# EAGLE library part XC3S100ECP132 (library xilinx_spartan3_virtex4_and_5)
Xilinx FPGA
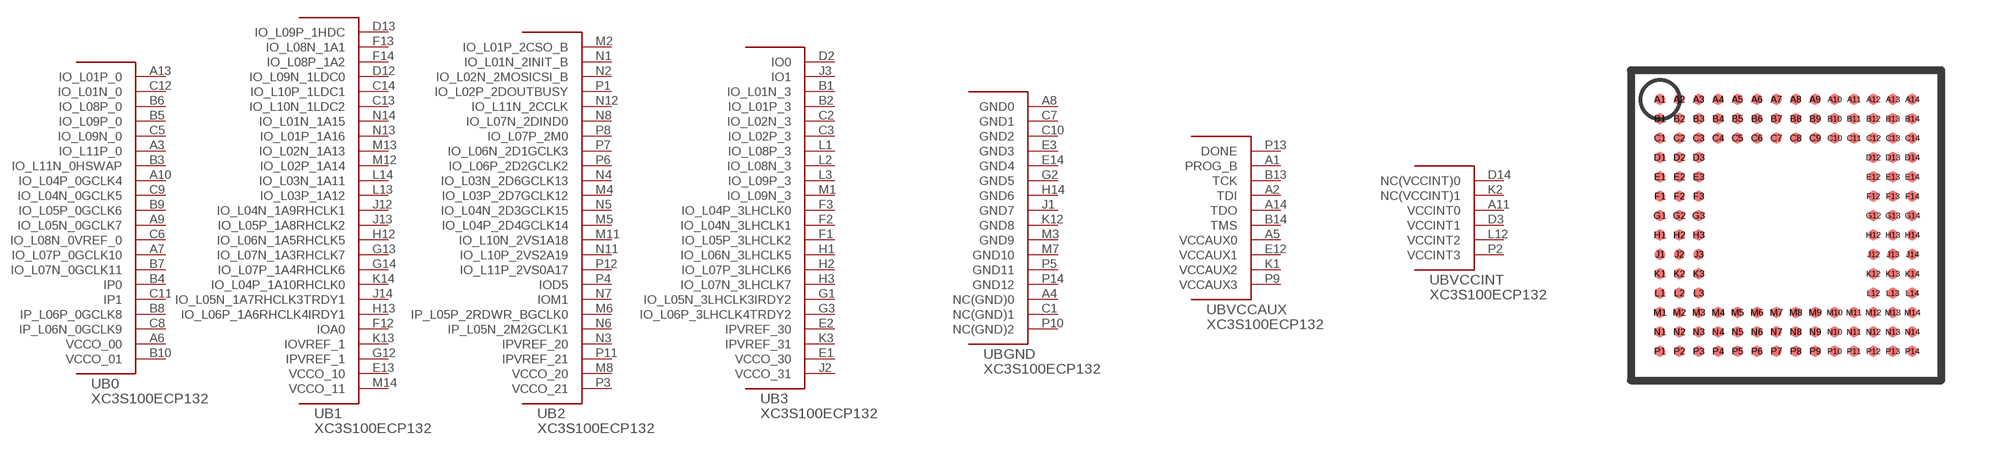
[diagram p45: symbol with the pads of CP132; footprint CP132]

Designator prefix U; gates B0=XC3S100ECP132_0 B1=XC3S100ECP132_1 B2=XC3S100ECP132_2 B3=XC3S100ECP132_3 BGND=XC3S100ECP132_GND BVCCAUX=XC3S100ECP132_VCCAUX BVCCINT=XC3S100ECP132_VCCINT

## XC3S100ECP132  [CP132]
A1  BVCCAUX:PROG_B
A2  BVCCAUX:TDI
A3  B0:IO_L11P_0
A4  BGND:NC(GND)0
A5  BVCCAUX:VCCAUX0  pas
A6  B0:VCCO_00  pas
A7  B0:IO_L07P_0GCLK10
A8  BGND:GND0  pas
A9  B0:IO_L05N_0GCLK7
A10  B0:IO_L04P_0GCLK4
A11  BVCCINT:VCCINT0  pas
A13  B0:IO_L01P_0
A14  BVCCAUX:TDO
B1  B3:IO_L01N_3
B2  B3:IO_L01P_3
B3  B0:IO_L11N_0HSWAP
B4  B0:IP0
B5  B0:IO_L09P_0
B6  B0:IO_L08P_0
B7  B0:IO_L07N_0GCLK11
B8  B0:IP_L06P_0GCLK8
B9  B0:IO_L05P_0GCLK6
B10  B0:VCCO_01  pas
B13  BVCCAUX:TCK
B14  BVCCAUX:TMS
C1  BGND:NC(GND)1
C2  B3:IO_L02N_3
C3  B3:IO_L02P_3
C5  B0:IO_L09N_0
C6  B0:IO_L08N_0VREF_0
C7  BGND:GND1  pas
C8  B0:IP_L06N_0GCLK9
C9  B0:IO_L04N_0GCLK5
C10  BGND:GND2  pas
C11  B0:IP1
C12  B0:IO_L01N_0
C13  B1:IO_L10N_1LDC2
C14  B1:IO_L10P_1LDC1
D2  B3:IO0
D3  BVCCINT:VCCINT1  pas
D12  B1:IO_L09N_1LDC0
D13  B1:IO_L09P_1HDC
D14  BVCCINT:NC(VCCINT)0
E1  B3:VCCO_30  pas
E2  B3:IPVREF_30
E3  BGND:GND3  pas
E12  BVCCAUX:VCCAUX1  pas
E13  B1:VCCO_10  pas
E14  BGND:GND4  pas
F1  B3:IO_L05P_3LHCLK2
F2  B3:IO_L04N_3LHCLK1
F3  B3:IO_L04P_3LHCLK0
F12  B1:IOA0
F13  B1:IO_L08N_1A1
F14  B1:IO_L08P_1A2
G1  B3:IO_L05N_3LHCLK3IRDY2
G2  BGND:GND5  pas
G3  B3:IO_L06P_3LHCLK4TRDY2
G12  B1:IPVREF_1
G13  B1:IO_L07N_1A3RHCLK7
G14  B1:IO_L07P_1A4RHCLK6
H1  B3:IO_L06N_3LHCLK5
H2  B3:IO_L07P_3LHCLK6
H3  B3:IO_L07N_3LHCLK7
H12  B1:IO_L06N_1A5RHCLK5
H13  B1:IO_L06P_1A6RHCLK4IRDY1
H14  BGND:GND6  pas
J1  BGND:GND7  pas
J2  B3:VCCO_31  pas
J3  B3:IO1
J12  B1:IO_L04N_1A9RHCLK1
J13  B1:IO_L05P_1A8RHCLK2
J14  B1:IO_L05N_1A7RHCLK3TRDY1
K1  BVCCAUX:VCCAUX2  pas
K2  BVCCINT:NC(VCCINT)1
K3  B3:IPVREF_31
K12  BGND:GND8  pas
K13  B1:IOVREF_1
K14  B1:IO_L04P_1A10RHCLK0
L1  B3:IO_L08P_3
L2  B3:IO_L08N_3
L3  B3:IO_L09P_3
L12  BVCCINT:VCCINT2  pas
L13  B1:IO_L03P_1A12
L14  B1:IO_L03N_1A11
M1  B3:IO_L09N_3
M2  B2:IO_L01P_2CSO_B
M3  BGND:GND9  pas
M4  B2:IO_L03P_2D7GCLK12
M5  B2:IO_L04P_2D4GCLK14
M6  B2:IP_L05P_2RDWR_BGCLK0
M7  BGND:GND10  pas
M8  B2:VCCO_20  pas
M11  B2:IO_L10N_2VS1A18
M12  B1:IO_L02P_1A14
M13  B1:IO_L02N_1A13
M14  B1:VCCO_11  pas
N1  B2:IO_L01N_2INIT_B
N2  B2:IO_L02N_2MOSICSI_B
N3  B2:IPVREF_20
N4  B2:IO_L03N_2D6GCLK13
N5  B2:IO_L04N_2D3GCLK15
N6  B2:IP_L05N_2M2GCLK1
N7  B2:IOM1
N8  B2:IO_L07N_2DIND0
N11  B2:IO_L10P_2VS2A19
N12  B2:IO_L11N_2CCLK
N13  B1:IO_L01P_1A16
N14  B1:IO_L01N_1A15
P1  B2:IO_L02P_2DOUTBUSY
P2  BVCCINT:VCCINT3  pas
P3  B2:VCCO_21  pas
P4  B2:IOD5
P5  BGND:GND11  pas
P6  B2:IO_L06P_2D2GCLK2
P7  B2:IO_L06N_2D1GCLK3
P8  B2:IO_L07P_2M0
P9  BVCCAUX:VCCAUX3  pas
P10  BGND:NC(GND)2
P11  B2:IPVREF_21
P12  B2:IO_L11P_2VS0A17
P13  BVCCAUX:DONE
P14  BGND:GND12  pas

## Footprint CP132 (pad centres in mm)
smd 0.27 x 0.27: A1 -3.25,3.25; A2 -2.75,3.25; A3 -2.25,3.25; A4 -1.75,3.25; A5 -1.25,3.25; A6 -0.75,3.25; A7 -0.25,3.25; A8 0.25,3.25; A9 0.75,3.25; A10 1.25,3.25; A11 1.75,3.25; A12 2.25,3.25; A13 2.75,3.25; A14 3.25,3.25; B1 -3.25,2.75; B2 -2.75,2.75; B3 -2.25,2.75; B4 -1.75,2.75; B5 -1.25,2.75; B6 -0.75,2.75; B7 -0.25,2.75; B8 0.25,2.75; B9 0.75,2.75; B10 1.25,2.75; B11 1.75,2.75; B12 2.25,2.75; B13 2.75,2.75; B14 3.25,2.75; C1 -3.25,2.25; C2 -2.75,2.25; C3 -2.25,2.25; C4 -1.75,2.25; C5 -1.25,2.25; C6 -0.75,2.25; C7 -0.25,2.25; C8 0.25,2.25; C9 0.75,2.25; C10 1.25,2.25; C11 1.75,2.25; C12 2.25,2.25; C13 2.75,2.25; C14 3.25,2.25; D1 -3.25,1.75; D2 -2.75,1.75; D3 -2.25,1.75; D12 2.25,1.75; D13 2.75,1.75; D14 3.25,1.75; E1 -3.25,1.25; E2 -2.75,1.25; E3 -2.25,1.25; E12 2.25,1.25; E13 2.75,1.25; E14 3.25,1.25; F1 -3.25,0.75; F2 -2.75,0.75; F3 -2.25,0.75; F12 2.25,0.75; F13 2.75,0.75; F14 3.25,0.75; G1 -3.25,0.25; G2 -2.75,0.25; G3 -2.25,0.25; G12 2.25,0.25; G13 2.75,0.25; G14 3.25,0.25; H1 -3.25,-0.25; H2 -2.75,-0.25; H3 -2.25,-0.25; H12 2.25,-0.25; H13 2.75,-0.25; H14 3.25,-0.25; J1 -3.25,-0.75; J2 -2.75,-0.75; J3 -2.25,-0.75; J12 2.25,-0.75; J13 2.75,-0.75; J14 3.25,-0.75; K1 -3.25,-1.25; K2 -2.75,-1.25; K3 -2.25,-1.25; K12 2.25,-1.25; K13 2.75,-1.25; K14 3.25,-1.25; L1 -3.25,-1.75; L2 -2.75,-1.75; L3 -2.25,-1.75; L12 2.25,-1.75; L13 2.75,-1.75; L14 3.25,-1.75; M1 -3.25,-2.25; M2 -2.75,-2.25; M3 -2.25,-2.25; M4 -1.75,-2.25; M5 -1.25,-2.25; M6 -0.75,-2.25; M7 -0.25,-2.25; M8 0.25,-2.25; M9 0.75,-2.25; M10 1.25,-2.25; M11 1.75,-2.25; M12 2.25,-2.25; M13 2.75,-2.25; M14 3.25,-2.25; N1 -3.25,-2.75; N2 -2.75,-2.75; N3 -2.25,-2.75; N4 -1.75,-2.75; N5 -1.25,-2.75; N6 -0.75,-2.75; N7 -0.25,-2.75; N8 0.25,-2.75; N9 0.75,-2.75; N10 1.25,-2.75; N11 1.75,-2.75; N12 2.25,-2.75; N13 2.75,-2.75; N14 3.25,-2.75; P1 -3.25,-3.25; P2 -2.75,-3.25; P3 -2.25,-3.25; P4 -1.75,-3.25; P5 -1.25,-3.25; P6 -0.75,-3.25; P7 -0.25,-3.25; P8 0.25,-3.25; P9 0.75,-3.25; P10 1.25,-3.25; P11 1.75,-3.25; P12 2.25,-3.25; P13 2.75,-3.25; P14 3.25,-3.25